# Altium integrated library TI Power Management Linear Regulator Single Channel LDO (400-7500mA).IntLib: 1408 symbols (part 3 of 60)
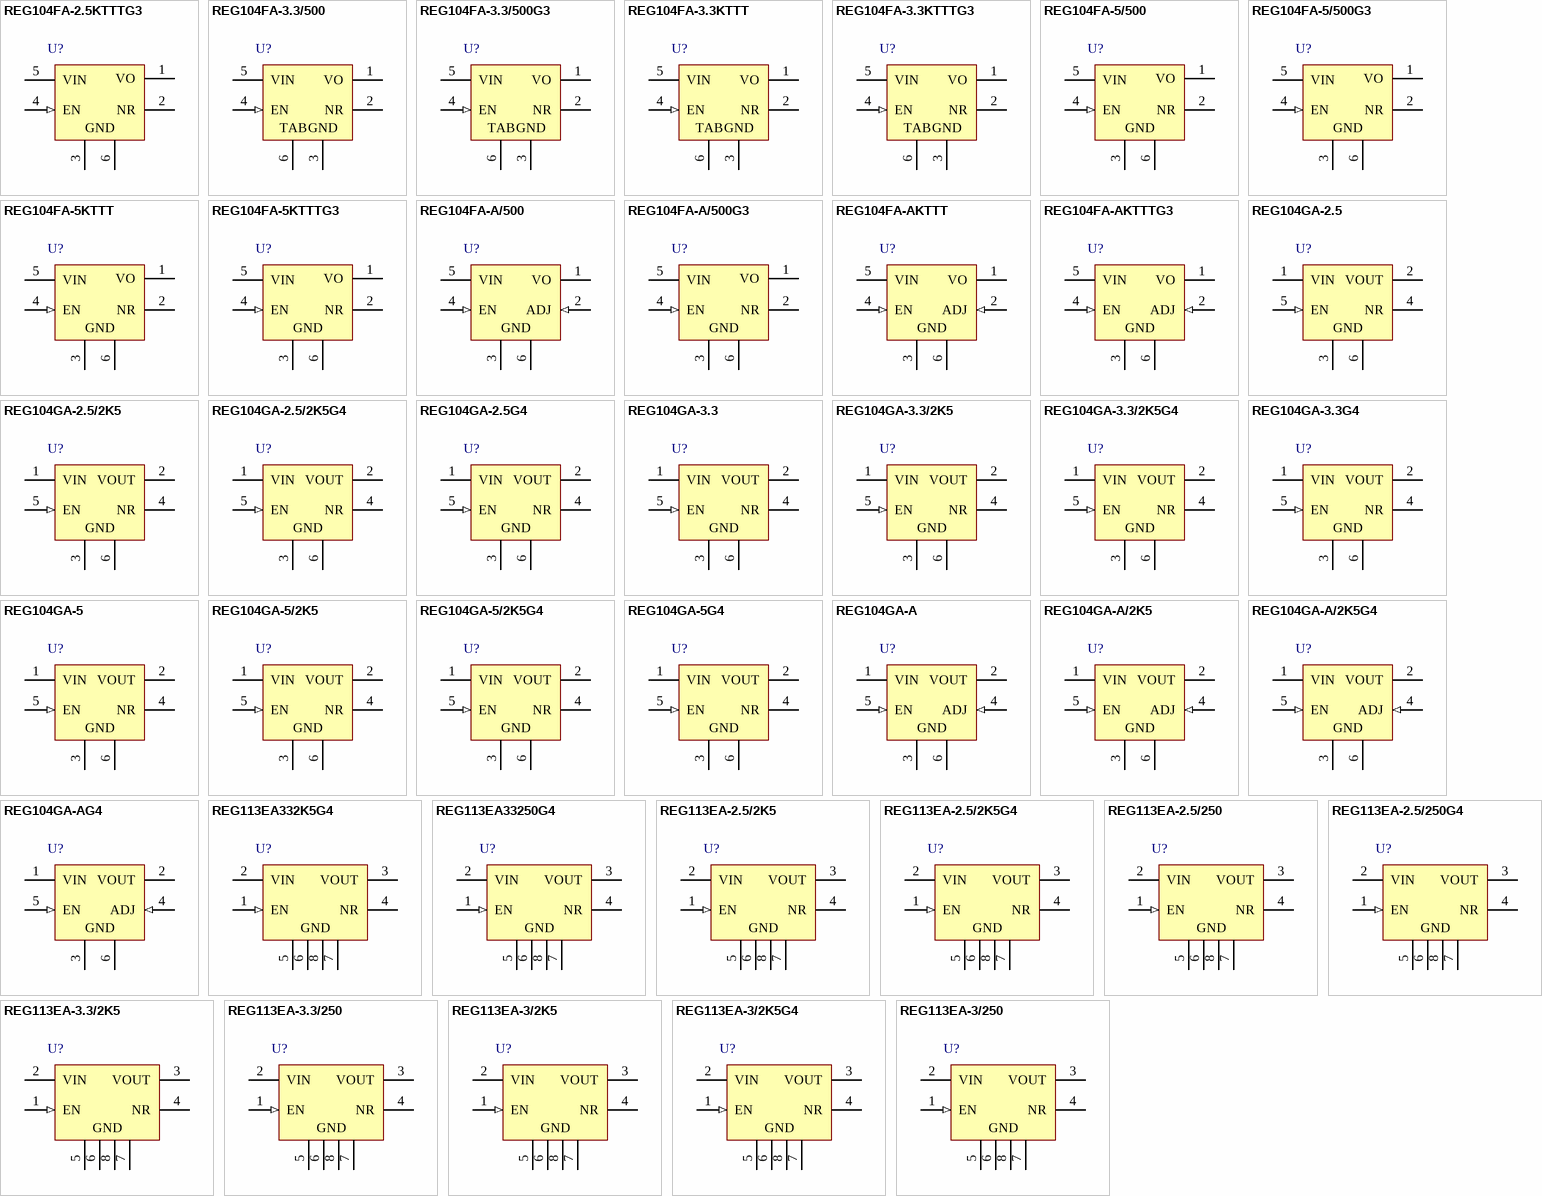
[diagram p52: symbols REG104FA-2.5KTTTG3 to REG113EA-3/250]

## REG104GA-5/2K5
designator U?
Single Output Fast Transient Response LDO, 1 A, Fixed 5 V Output, 2.1 to 15 V Input, 6-pin SOT-223 (DCQ), -40 to 85 degC, Green (RoHS & no Sb/Br); Manufacturer: Texas Instruments; PartNumber: REG104GA-5/2K5; Accuracy(%): 2; Fixed Output Options(V): 5; Iout(Max)(A): 1; Iq(Typ)(mA): 0.6; SubFamily: Single Channel LDO; Vdo(Typ)(mV): 320; Vin(Max)(V): 15; Vin(Min)(V): 2.1; DatasheetVersion: SBVS025G; PackageVersion: 4202109/D; PackageReference: DCQ6; PackageDescription: 6-Pin Plastic Small Outline, Body 3.5 x 6.5 mm, Pitch 1.27 mm; Supplier 1: Digi-Key; Supplier Part Number 1: REG104GA-5TR-ND; Supplier 2: Digi-Key; Supplier Part Number 2: REG104GA-5CT-ND; Supplier 3: Digi-Key; Supplier Part Number 3: REG104GA-5DKR-ND; Supplier 4: Newark; Supplier Part Number 4: 75C7550; Supplier 5: Mouser; Supplier Part Number 5: 595-REG104GA-5/2K5; Eco-Plan: Green (RoHS & no Sb/Br); Vout Adj(Max)(V): 5; Vout Adj(Min)(V): 5; Mounting Technology: Surface Mount; ComponentLink1Description: Manufacturer URL; ComponentLink1URL: http://www.ti.com/; ComponentLink2Description: Datasheet; ComponentLink2URL: http://www.ti.com/general/docs/lit/getliterature.tsp?genericPartNumber=REG104-5&fileType=pdf; ComponentLink3Description: Package Specification; ComponentLink3URL: http://www.ti.com/litv/pdf/mpds098c
footprint TI-DCQ6_N (SOT223, 6-Leads, Body 6.5x3.5mm, Pitch 1.27mm, IPC Medium Density)
footprint TI-DCQ6_L (SOT223, 6-Leads, Body 6.5x3.5mm, Pitch 1.27mm, IPC High Density)
footprint TI-DCQ6_M (SOT223, 6-Leads, Body 6.5x3.5mm, Pitch 1.27mm, IPC Low Density)
pins: 1 VIN (power), 2 VOUT (power), 3 GND (power), 4 NR, 5 EN (in), 6 GND (power)

## REG104GA-5/2K5G4
designator U?
Single Output Fast Transient Response LDO, 1 A, Fixed 5 V Output, 2.1 to 15 V Input, 6-pin SOT-223 (DCQ), -40 to 85 degC; Manufacturer: Texas Instruments; PartNumber: REG104GA-5/2K5G4; Accuracy(%): 2; Fixed Output Options(V): 5; Iout(Max)(A): 1; Iq(Typ)(mA): 0.6; SubFamily: Single Channel LDO; Vdo(Typ)(mV): 320; Vin(Max)(V): 15; Vin(Min)(V): 2.1; DatasheetVersion: SBVS025G; PackageVersion: 4202109/D; PackageReference: DCQ6; PackageDescription: 6-Pin Plastic Small Outline, Body 3.5 x 6.5 mm, Pitch 1.27 mm; Supplier 1: Digi-Key; Supplier Part Number 1: REG104GA-5/2K5G4-ND; Supplier 2: Mouser; Supplier Part Number 2: 595-REG104GA-5/2K5G4; Vout Adj(Max)(V): 5; Vout Adj(Min)(V): 5; Mounting Technology: Surface Mount; ComponentLink1Description: Manufacturer URL; ComponentLink1URL: http://www.ti.com/; ComponentLink2Description: Datasheet; ComponentLink2URL: http://www.ti.com/general/docs/lit/getliterature.tsp?genericPartNumber=REG104-5&fileType=pdf; ComponentLink3Description: Package Specification; ComponentLink3URL: http://www.ti.com/litv/pdf/mpds098c
footprint TI-DCQ6_N (SOT223, 6-Leads, Body 6.5x3.5mm, Pitch 1.27mm, IPC Medium Density)
footprint TI-DCQ6_L (SOT223, 6-Leads, Body 6.5x3.5mm, Pitch 1.27mm, IPC High Density)
footprint TI-DCQ6_M (SOT223, 6-Leads, Body 6.5x3.5mm, Pitch 1.27mm, IPC Low Density)
pins: 1 VIN (power), 2 VOUT (power), 3 GND (power), 4 NR, 5 EN (in), 6 GND (power)

## REG104GA-5G4
designator U?
Single Output Fast Transient Response LDO, 1 A, Fixed 5 V Output, 2.1 to 15 V Input, 6-pin SOT-223 (DCQ), -40 to 85 degC; Manufacturer: Texas Instruments; PartNumber: REG104GA-5G4; Accuracy(%): 2; Fixed Output Options(V): 5; Iout(Max)(A): 1; Iq(Typ)(mA): 0.6; SubFamily: Single Channel LDO; Vdo(Typ)(mV): 320; Vin(Max)(V): 15; Vin(Min)(V): 2.1; DatasheetVersion: SBVS025G; PackageVersion: 4202109/D; PackageReference: DCQ6; PackageDescription: 6-Pin Plastic Small Outline, Body 3.5 x 6.5 mm, Pitch 1.27 mm; Supplier 1: Digi-Key; Supplier Part Number 1: REG104GA-5G4-ND; Supplier 2: Farnell; Supplier Part Number 2: 1207261; Supplier 3: Newark; Supplier Part Number 3: 24M6812; Supplier 4: Mouser; Supplier Part Number 4: 595-REG104GA-5G4; Vout Adj(Max)(V): 5; Vout Adj(Min)(V): 5; Mounting Technology: Surface Mount; ComponentLink1Description: Manufacturer URL; ComponentLink1URL: http://www.ti.com/; ComponentLink2Description: Datasheet; ComponentLink2URL: http://www.ti.com/general/docs/lit/getliterature.tsp?genericPartNumber=REG104-5&fileType=pdf; ComponentLink3Description: Package Specification; ComponentLink3URL: http://www.ti.com/litv/pdf/mpds098c
footprint TI-DCQ6_N (SOT223, 6-Leads, Body 6.5x3.5mm, Pitch 1.27mm, IPC Medium Density)
footprint TI-DCQ6_L (SOT223, 6-Leads, Body 6.5x3.5mm, Pitch 1.27mm, IPC High Density)
footprint TI-DCQ6_M (SOT223, 6-Leads, Body 6.5x3.5mm, Pitch 1.27mm, IPC Low Density)
pins: 1 VIN (power), 2 VOUT (power), 3 GND (power), 4 NR, 5 EN (in), 6 GND (power)

## REG104GA-A
designator U?
Single Output Fast Transient Response LDO, 1 A, Adjustable 1.295 to 5.5 V Output, 2.1 to 15 V Input, 6-pin SOT-223 (DCQ), -40 to 85 degC, Green (RoHS & no Sb/Br); Manufacturer: Texas Instruments; PartNumber: REG104GA-A; Accuracy(%): 2; Iout(Max)(A): 1; Iq(Typ)(mA): 0.6; SubFamily: Single Channel LDO; Vdo(Typ)(mV): 230; Vin(Max)(V): 15; Vin(Min)(V): 2.1; Vout Adj(Max)(V): 5.5; Vout Adj(Min)(V): 1.3; DatasheetVersion: SBVS025G; PackageVersion: 4202109/D; PackageReference: DCQ6; PackageDescription: 6-Pin Plastic Small Outline, Body 3.5 x 6.5 mm, Pitch 1.27 mm; Supplier 1: Digi-Key; Supplier Part Number 1: REG104GA-A-ND; Supplier 2: Newark; Supplier Part Number 2: 74C0365; Supplier 3: Mouser; Supplier Part Number 3: 595-REG104GA-A; Eco-Plan: Green (RoHS & no Sb/Br); Mounting Technology: Surface Mount; ComponentLink1Description: Manufacturer URL; ComponentLink1URL: http://www.ti.com/; ComponentLink2Description: Datasheet; ComponentLink2URL: http://www.ti.com/general/docs/lit/getliterature.tsp?genericPartNumber=REG104-A&fileType=pdf; ComponentLink3Description: Package Specification; ComponentLink3URL: http://www.ti.com/litv/pdf/mpds098c
footprint TI-DCQ6_N (SOT223, 6-Leads, Body 6.5x3.5mm, Pitch 1.27mm, IPC Medium Density)
footprint TI-DCQ6_L (SOT223, 6-Leads, Body 6.5x3.5mm, Pitch 1.27mm, IPC High Density)
footprint TI-DCQ6_M (SOT223, 6-Leads, Body 6.5x3.5mm, Pitch 1.27mm, IPC Low Density)
pins: 1 VIN (power), 2 VOUT (power), 3 GND (power), 4 ADJ (in), 5 EN (in), 6 GND (power)

## REG104GA-A/2K5
designator U?
Single Output Fast Transient Response LDO, 1 A, Adjustable 1.295 to 5.5 V Output, 2.1 to 15 V Input, 6-pin SOT-223 (DCQ), -40 to 85 degC, Green (RoHS & no Sb/Br); Manufacturer: Texas Instruments; PartNumber: REG104GA-A/2K5; Accuracy(%): 2; Iout(Max)(A): 1; Iq(Typ)(mA): 0.6; SubFamily: Single Channel LDO; Vdo(Typ)(mV): 230; Vin(Max)(V): 15; Vin(Min)(V): 2.1; Vout Adj(Max)(V): 5.5; Vout Adj(Min)(V): 1.3; DatasheetVersion: SBVS025G; PackageVersion: 4202109/D; PackageReference: DCQ6; PackageDescription: 6-Pin Plastic Small Outline, Body 3.5 x 6.5 mm, Pitch 1.27 mm; Supplier 1: Digi-Key; Supplier Part Number 1: REG104GA-A/2K5-ND; Supplier 2: Newark; Supplier Part Number 2: 75C7540; Supplier 3: Mouser; Supplier Part Number 3: 595-REG104GA-A/2K5; Eco-Plan: Green (RoHS & no Sb/Br); Mounting Technology: Surface Mount; ComponentLink1Description: Manufacturer URL; ComponentLink1URL: http://www.ti.com/; ComponentLink2Description: Datasheet; ComponentLink2URL: http://www.ti.com/general/docs/lit/getliterature.tsp?genericPartNumber=REG104-A&fileType=pdf; ComponentLink3Description: Package Specification; ComponentLink3URL: http://www.ti.com/litv/pdf/mpds098c
footprint TI-DCQ6_N (SOT223, 6-Leads, Body 6.5x3.5mm, Pitch 1.27mm, IPC Medium Density)
footprint TI-DCQ6_L (SOT223, 6-Leads, Body 6.5x3.5mm, Pitch 1.27mm, IPC High Density)
footprint TI-DCQ6_M (SOT223, 6-Leads, Body 6.5x3.5mm, Pitch 1.27mm, IPC Low Density)
pins: 1 VIN (power), 2 VOUT (power), 3 GND (power), 4 ADJ (in), 5 EN (in), 6 GND (power)

## REG104GA-A/2K5G4
designator U?
Single Output Fast Transient Response LDO, 1 A, Adjustable 1.295 to 5.5 V Output, 2.1 to 15 V Input, 6-pin SOT-223 (DCQ), -40 to 85 degC, Green (RoHS & no Sb/Br); Manufacturer: Texas Instruments; PartNumber: REG104GA-A/2K5G4; Accuracy(%): 2; Iout(Max)(A): 1; Iq(Typ)(mA): 0.6; SubFamily: Single Channel LDO; Vdo(Typ)(mV): 230; Vin(Max)(V): 15; Vin(Min)(V): 2.1; Vout Adj(Max)(V): 5.5; Vout Adj(Min)(V): 1.3; DatasheetVersion: SBVS025G; PackageVersion: 4202109/D; PackageReference: DCQ6; PackageDescription: 6-Pin Plastic Small Outline, Body 3.5 x 6.5 mm, Pitch 1.27 mm; Supplier 1: Digi-Key; Supplier Part Number 1: REG104GA-A/2K5G4-ND; Supplier 2: Newark; Supplier Part Number 2: 71J7570; Supplier 3: Mouser; Supplier Part Number 3: 595-REG104GA-A/2K5G4; Eco-Plan: Green (RoHS & no Sb/Br); Mounting Technology: Surface Mount; ComponentLink1Description: Manufacturer URL; ComponentLink1URL: http://www.ti.com/; ComponentLink2Description: Datasheet; ComponentLink2URL: http://www.ti.com/general/docs/lit/getliterature.tsp?genericPartNumber=REG104-A&fileType=pdf; ComponentLink3Description: Package Specification; ComponentLink3URL: http://www.ti.com/litv/pdf/mpds098c
footprint TI-DCQ6_N (SOT223, 6-Leads, Body 6.5x3.5mm, Pitch 1.27mm, IPC Medium Density)
footprint TI-DCQ6_L (SOT223, 6-Leads, Body 6.5x3.5mm, Pitch 1.27mm, IPC High Density)
footprint TI-DCQ6_M (SOT223, 6-Leads, Body 6.5x3.5mm, Pitch 1.27mm, IPC Low Density)
pins: 1 VIN (power), 2 VOUT (power), 3 GND (power), 4 ADJ (in), 5 EN (in), 6 GND (power)

## REG104GA-AG4
designator U?
Single Output Fast Transient Response LDO, 1 A, Adjustable 1.295 to 5.5 V Output, 2.1 to 15 V Input, 6-pin SOT-223 (DCQ), -40 to 85 degC; Manufacturer: Texas Instruments; PartNumber: REG104GA-AG4; Accuracy(%): 2; Iout(Max)(A): 1; Iq(Typ)(mA): 0.6; SubFamily: Single Channel LDO; Vdo(Typ)(mV): 230; Vin(Max)(V): 15; Vin(Min)(V): 2.1; Vout Adj(Max)(V): 5.5; Vout Adj(Min)(V): 1.3; DatasheetVersion: SBVS025G; PackageVersion: 4202109/D; PackageReference: DCQ6; PackageDescription: 6-Pin Plastic Small Outline, Body 3.5 x 6.5 mm, Pitch 1.27 mm; Supplier 1: Digi-Key; Supplier Part Number 1: REG104GA-AG4-ND; Supplier 2: Farnell; Supplier Part Number 2: 1207262; Supplier 3: Newark; Supplier Part Number 3: 24M6810; Supplier 4: Newark; Supplier Part Number 4: 80K2819; Supplier 5: Mouser; Supplier Part Number 5: 595-REG104GA-AG4; Mounting Technology: Surface Mount; ComponentLink1Description: Manufacturer URL; ComponentLink1URL: http://www.ti.com/; ComponentLink2Description: Datasheet; ComponentLink2URL: http://www.ti.com/general/docs/lit/getliterature.tsp?genericPartNumber=REG104-A&fileType=pdf; ComponentLink3Description: Package Specification; ComponentLink3URL: http://www.ti.com/litv/pdf/mpds098c
footprint TI-DCQ6_N (SOT223, 6-Leads, Body 6.5x3.5mm, Pitch 1.27mm, IPC Medium Density)
footprint TI-DCQ6_L (SOT223, 6-Leads, Body 6.5x3.5mm, Pitch 1.27mm, IPC High Density)
footprint TI-DCQ6_M (SOT223, 6-Leads, Body 6.5x3.5mm, Pitch 1.27mm, IPC Low Density)
pins: 1 VIN (power), 2 VOUT (power), 3 GND (power), 4 ADJ (in), 5 EN (in), 6 GND (power)

## REG113EA332K5G4
designator U?
Single Output Fast Transient Response LDO, 400 mA, Fixed 3.3 V Output, 1.8 to 10 V Input, 8-pin MSOP (DGK), -40 to 85 degC, Green (RoHS & no Sb/Br); Manufacturer: Texas Instruments; PartNumber: REG113EA332K5G4; Accuracy(%): 1.5; Fixed Output Options(V): 3.3; Iout(Max)(A): 0.4; SubFamily: Single Channel LDO; Vdo(Typ)(mV): 250; Vin(Max)(V): 10; Vin(Min)(V): 1.8; DatasheetVersion: SBVS031D; PackageVersion: 4073329/E; PackageReference: DGK8; PackageDescription: 8-Pin Thin Small Outline Package 3 x 3 mm Body ,0.65 mm Pitch; Supplier 1: Digi-Key; Supplier Part Number 1: REG113EA332K5G4-ND; Supplier 2: Mouser; Supplier Part Number 2: 595-REG113EA332K5G4; Eco-Plan: Green (RoHS & no Sb/Br); Iq(Typ)(mA): 0.4; Vout Adj(Max)(V): 3.3; Vout Adj(Min)(V): 3.3; Mounting Technology: Surface Mount; Code_JEDEC: MO-187; ComponentLink1Description: Manufacturer URL; ComponentLink1URL: http://www.ti.com/; ComponentLink2Description: Datasheet; ComponentLink2URL: http://www.ti.com/general/docs/lit/getliterature.tsp?genericPartNumber=REG113-33&fileType=pdf; ComponentLink3Description: Package Specification; ComponentLink3URL: http://www.ti.com/litv/pdf/mpds028d
footprint TI-DGK8_N (SOP, 8-Leads, Body 3x3mm, Pitch 0.65mm, IPC Medium Density)
footprint TI-DGK8_L (SOP, 8-Leads, Body 3x3mm, Pitch 0.65mm, IPC High Density)
footprint TI-DGK8_M (SOP, 8-Leads, Body 3x3mm, Pitch 0.65mm, IPC Low Density)
pins: 1 EN (in), 2 VIN (power), 3 VOUT (power), 4 NR, 5 GND (power), 6 GND (power), 7 GND (power), 8 GND (power)

## REG113EA33250G4
designator U?
Single Output Fast Transient Response LDO, 400 mA, Fixed 3.3 V Output, 1.8 to 10 V Input, 8-pin MSOP (DGK), -40 to 85 degC, Green (RoHS & no Sb/Br); Manufacturer: Texas Instruments; PartNumber: REG113EA33250G4; Accuracy(%): 1.5; Fixed Output Options(V): 3.3; Iout(Max)(A): 0.4; SubFamily: Single Channel LDO; Vdo(Typ)(mV): 250; Vin(Max)(V): 10; Vin(Min)(V): 1.8; DatasheetVersion: SBVS031D; PackageVersion: 4073329/E; PackageReference: DGK8; PackageDescription: 8-Pin Thin Small Outline Package 3 x 3 mm Body ,0.65 mm Pitch; Supplier 1: Digi-Key; Supplier Part Number 1: REG113EA33250G4-ND; Supplier 2: Mouser; Supplier Part Number 2: 595-REG113EA33250G4; Eco-Plan: Green (RoHS & no Sb/Br); Iq(Typ)(mA): 0.4; Vout Adj(Max)(V): 3.3; Vout Adj(Min)(V): 3.3; Mounting Technology: Surface Mount; Code_JEDEC: MO-187; ComponentLink1Description: Manufacturer URL; ComponentLink1URL: http://www.ti.com/; ComponentLink2Description: Datasheet; ComponentLink2URL: http://www.ti.com/general/docs/lit/getliterature.tsp?genericPartNumber=REG113-33&fileType=pdf; ComponentLink3Description: Package Specification; ComponentLink3URL: http://www.ti.com/litv/pdf/mpds028d
footprint TI-DGK8_N (SOP, 8-Leads, Body 3x3mm, Pitch 0.65mm, IPC Medium Density)
footprint TI-DGK8_L (SOP, 8-Leads, Body 3x3mm, Pitch 0.65mm, IPC High Density)
footprint TI-DGK8_M (SOP, 8-Leads, Body 3x3mm, Pitch 0.65mm, IPC Low Density)
pins: 1 EN (in), 2 VIN (power), 3 VOUT (power), 4 NR, 5 GND (power), 6 GND (power), 7 GND (power), 8 GND (power)

## REG113EA-2.5/2K5
designator U?
Single Output Fast Transient Response LDO, 400 mA, Fixed 2.5 V Output, 1.8 to 10 V Input, 8-pin MSOP (DGK), -40 to 85 degC, Green (RoHS & no Sb/Br); Manufacturer: Texas Instruments; PartNumber: REG113EA-2.5/2K5; Accuracy(%): 1.5; Fixed Output Options(V): 2.5; Iout(Max)(A): 0.4; SubFamily: Single Channel LDO; Vdo(Typ)(mV): 250; Vin(Max)(V): 10; Vin(Min)(V): 1.8; DatasheetVersion: SBVS031D; PackageVersion: 4073329/E; PackageReference: DGK8; PackageDescription: 8-Pin Thin Small Outline Package 3 x 3 mm Body ,0.65 mm Pitch; Supplier 1: Digi-Key; Supplier Part Number 1: REG113EA2.52K5TR-ND; Supplier 2: Digi-Key; Supplier Part Number 2: REG113EA2.52K5CT-ND; Supplier 3: Digi-Key; Supplier Part Number 3: REG113EA2.52K5DKR-ND; Supplier 4: Mouser; Supplier Part Number 4: 595-REG113EA-2.5/2K5; Eco-Plan: Green (RoHS & no Sb/Br); Iq(Typ)(mA): 0.4; Vout Adj(Max)(V): 2.5; Vout Adj(Min)(V): 2.5; Mounting Technology: Surface Mount; Code_JEDEC: MO-187; ComponentLink1Description: Manufacturer URL; ComponentLink1URL: http://www.ti.com/; ComponentLink2Description: Datasheet; ComponentLink2URL: http://www.ti.com/general/docs/lit/getliterature.tsp?genericPartNumber=REG113-25&fileType=pdf; ComponentLink3Description: Package Specification; ComponentLink3URL: http://www.ti.com/litv/pdf/mpds028d
footprint TI-DGK8_N (SOP, 8-Leads, Body 3x3mm, Pitch 0.65mm, IPC Medium Density)
footprint TI-DGK8_L (SOP, 8-Leads, Body 3x3mm, Pitch 0.65mm, IPC High Density)
footprint TI-DGK8_M (SOP, 8-Leads, Body 3x3mm, Pitch 0.65mm, IPC Low Density)
pins: 1 EN (in), 2 VIN (power), 3 VOUT (power), 4 NR, 5 GND (power), 6 GND (power), 7 GND (power), 8 GND (power)

## REG113EA-2.5/2K5G4
designator U?
Single Output Fast Transient Response LDO, 400 mA, Fixed 2.5 V Output, 1.8 to 10 V Input, 8-pin MSOP (DGK), -40 to 85 degC, Green (RoHS & no Sb/Br); Manufacturer: Texas Instruments; PartNumber: REG113EA-2.5/2K5G4; Accuracy(%): 1.5; Fixed Output Options(V): 2.5; Iout(Max)(A): 0.4; SubFamily: Single Channel LDO; Vdo(Typ)(mV): 250; Vin(Max)(V): 10; Vin(Min)(V): 1.8; DatasheetVersion: SBVS031D; PackageVersion: 4073329/E; PackageReference: DGK8; PackageDescription: 8-Pin Thin Small Outline Package 3 x 3 mm Body ,0.65 mm Pitch; Supplier 1: Digi-Key; Supplier Part Number 1: REG113EA-2.5/2K5G4-ND; Supplier 2: Mouser; Supplier Part Number 2: 595-REG113EA252K5G4; Eco-Plan: Green (RoHS & no Sb/Br); Iq(Typ)(mA): 0.4; Vout Adj(Max)(V): 2.5; Vout Adj(Min)(V): 2.5; Mounting Technology: Surface Mount; Code_JEDEC: MO-187; ComponentLink1Description: Manufacturer URL; ComponentLink1URL: http://www.ti.com/; ComponentLink2Description: Datasheet; ComponentLink2URL: http://www.ti.com/general/docs/lit/getliterature.tsp?genericPartNumber=REG113-25&fileType=pdf; ComponentLink3Description: Package Specification; ComponentLink3URL: http://www.ti.com/litv/pdf/mpds028d
footprint TI-DGK8_N (SOP, 8-Leads, Body 3x3mm, Pitch 0.65mm, IPC Medium Density)
footprint TI-DGK8_L (SOP, 8-Leads, Body 3x3mm, Pitch 0.65mm, IPC High Density)
footprint TI-DGK8_M (SOP, 8-Leads, Body 3x3mm, Pitch 0.65mm, IPC Low Density)
pins: 1 EN (in), 2 VIN (power), 3 VOUT (power), 4 NR, 5 GND (power), 6 GND (power), 7 GND (power), 8 GND (power)

## REG113EA-2.5/250
designator U?
Single Output Fast Transient Response LDO, 400 mA, Fixed 2.5 V Output, 1.8 to 10 V Input, 8-pin MSOP (DGK), -40 to 85 degC, Green (RoHS & no Sb/Br); Manufacturer: Texas Instruments; PartNumber: REG113EA-2.5/250; Accuracy(%): 1.5; Fixed Output Options(V): 2.5; Iout(Max)(A): 0.4; SubFamily: Single Channel LDO; Vdo(Typ)(mV): 250; Vin(Max)(V): 10; Vin(Min)(V): 1.8; DatasheetVersion: SBVS031D; PackageVersion: 4073329/E; PackageReference: DGK8; PackageDescription: 8-Pin Thin Small Outline Package 3 x 3 mm Body ,0.65 mm Pitch; Supplier 1: Digi-Key; Supplier Part Number 1: 296-29075-2-ND; Supplier 2: Digi-Key; Supplier Part Number 2: 296-29075-1-ND; Supplier 3: Digi-Key; Supplier Part Number 3: 296-29075-6-ND; Supplier 4: Mouser; Supplier Part Number 4: 595-REG113EA-2.5/250; Eco-Plan: Green (RoHS & no Sb/Br); Iq(Typ)(mA): 0.4; Vout Adj(Max)(V): 2.5; Vout Adj(Min)(V): 2.5; Mounting Technology: Surface Mount; Code_JEDEC: MO-187; ComponentLink1Description: Manufacturer URL; ComponentLink1URL: http://www.ti.com/; ComponentLink2Description: Datasheet; ComponentLink2URL: http://www.ti.com/general/docs/lit/getliterature.tsp?genericPartNumber=REG113-25&fileType=pdf; ComponentLink3Description: Package Specification; ComponentLink3URL: http://www.ti.com/litv/pdf/mpds028d
footprint TI-DGK8_N (SOP, 8-Leads, Body 3x3mm, Pitch 0.65mm, IPC Medium Density)
footprint TI-DGK8_L (SOP, 8-Leads, Body 3x3mm, Pitch 0.65mm, IPC High Density)
footprint TI-DGK8_M (SOP, 8-Leads, Body 3x3mm, Pitch 0.65mm, IPC Low Density)
pins: 1 EN (in), 2 VIN (power), 3 VOUT (power), 4 NR, 5 GND (power), 6 GND (power), 7 GND (power), 8 GND (power)

## REG113EA-2.5/250G4
designator U?
Single Output Fast Transient Response LDO, 400 mA, Fixed 2.5 V Output, 1.8 to 10 V Input, 8-pin MSOP (DGK), -40 to 85 degC, Green (RoHS & no Sb/Br); Manufacturer: Texas Instruments; PartNumber: REG113EA-2.5/250G4; Accuracy(%): 1.5; Fixed Output Options(V): 2.5; Iout(Max)(A): 0.4; SubFamily: Single Channel LDO; Vdo(Typ)(mV): 250; Vin(Max)(V): 10; Vin(Min)(V): 1.8; DatasheetVersion: SBVS031D; PackageVersion: 4073329/E; PackageReference: DGK8; PackageDescription: 8-Pin Thin Small Outline Package 3 x 3 mm Body ,0.65 mm Pitch; Supplier 1: Digi-Key; Supplier Part Number 1: REG113EA-2.5/250G4-ND; Supplier 2: Mouser; Supplier Part Number 2: 595-REG113EA25250G4; Eco-Plan: Green (RoHS & no Sb/Br); Iq(Typ)(mA): 0.4; Vout Adj(Max)(V): 2.5; Vout Adj(Min)(V): 2.5; Mounting Technology: Surface Mount; Code_JEDEC: MO-187; ComponentLink1Description: Manufacturer URL; ComponentLink1URL: http://www.ti.com/; ComponentLink2Description: Datasheet; ComponentLink2URL: http://www.ti.com/general/docs/lit/getliterature.tsp?genericPartNumber=REG113-25&fileType=pdf; ComponentLink3Description: Package Specification; ComponentLink3URL: http://www.ti.com/litv/pdf/mpds028d
footprint TI-DGK8_N (SOP, 8-Leads, Body 3x3mm, Pitch 0.65mm, IPC Medium Density)
footprint TI-DGK8_L (SOP, 8-Leads, Body 3x3mm, Pitch 0.65mm, IPC High Density)
footprint TI-DGK8_M (SOP, 8-Leads, Body 3x3mm, Pitch 0.65mm, IPC Low Density)
pins: 1 EN (in), 2 VIN (power), 3 VOUT (power), 4 NR, 5 GND (power), 6 GND (power), 7 GND (power), 8 GND (power)

## REG113EA-3.3/2K5
designator U?
Single Output Fast Transient Response LDO, 400 mA, Fixed 3.3 V Output, 1.8 to 10 V Input, 8-pin MSOP (DGK), -40 to 85 degC, Green (RoHS & no Sb/Br); Manufacturer: Texas Instruments; PartNumber: REG113EA-3.3/2K5; Accuracy(%): 1.5; Fixed Output Options(V): 3.3; Iout(Max)(A): 0.4; SubFamily: Single Channel LDO; Vdo(Typ)(mV): 250; Vin(Max)(V): 10; Vin(Min)(V): 1.8; DatasheetVersion: SBVS031D; PackageVersion: 4073329/E; PackageReference: DGK8; PackageDescription: 8-Pin Thin Small Outline Package 3 x 3 mm Body ,0.65 mm Pitch; Supplier 1: Digi-Key; Supplier Part Number 1: REG113EA-3.3/2K5-ND; Supplier 2: Newark; Supplier Part Number 2: 75C7579; Supplier 3: Mouser; Supplier Part Number 3: 595-REG113EA-3.3/2K5; Eco-Plan: Green (RoHS & no Sb/Br); Iq(Typ)(mA): 0.4; Vout Adj(Max)(V): 3.3; Vout Adj(Min)(V): 3.3; Mounting Technology: Surface Mount; Code_JEDEC: MO-187; ComponentLink1Description: Manufacturer URL; ComponentLink1URL: http://www.ti.com/; ComponentLink2Description: Datasheet; ComponentLink2URL: http://www.ti.com/general/docs/lit/getliterature.tsp?genericPartNumber=REG113-33&fileType=pdf; ComponentLink3Description: Package Specification; ComponentLink3URL: http://www.ti.com/litv/pdf/mpds028d
footprint TI-DGK8_N (SOP, 8-Leads, Body 3x3mm, Pitch 0.65mm, IPC Medium Density)
footprint TI-DGK8_L (SOP, 8-Leads, Body 3x3mm, Pitch 0.65mm, IPC High Density)
footprint TI-DGK8_M (SOP, 8-Leads, Body 3x3mm, Pitch 0.65mm, IPC Low Density)
pins: 1 EN (in), 2 VIN (power), 3 VOUT (power), 4 NR, 5 GND (power), 6 GND (power), 7 GND (power), 8 GND (power)

## REG113EA-3.3/250
designator U?
Single Output Fast Transient Response LDO, 400 mA, Fixed 3.3 V Output, 1.8 to 10 V Input, 8-pin MSOP (DGK), -40 to 85 degC, Green (RoHS & no Sb/Br); Manufacturer: Texas Instruments; PartNumber: REG113EA-3.3/250; Accuracy(%): 1.5; Fixed Output Options(V): 3.3; Iout(Max)(A): 0.4; SubFamily: Single Channel LDO; Vdo(Typ)(mV): 250; Vin(Max)(V): 10; Vin(Min)(V): 1.8; DatasheetVersion: SBVS031D; PackageVersion: 4073329/E; PackageReference: DGK8; PackageDescription: 8-Pin Thin Small Outline Package 3 x 3 mm Body ,0.65 mm Pitch; Supplier 1: Digi-Key; Supplier Part Number 1: REG113EA3.3/250TR-ND; Supplier 2: Digi-Key; Supplier Part Number 2: REG113EA3.3/250CT-ND; Supplier 3: Digi-Key; Supplier Part Number 3: REG113EA3.3/250DKR-ND; Supplier 4: Newark; Supplier Part Number 4: 75C7580; Supplier 5: Mouser; Supplier Part Number 5: 595-REG113EA-3.3/250; Eco-Plan: Green (RoHS & no Sb/Br); Iq(Typ)(mA): 0.4; Vout Adj(Max)(V): 3.3; Vout Adj(Min)(V): 3.3; Mounting Technology: Surface Mount; Code_JEDEC: MO-187; ComponentLink1Description: Manufacturer URL; ComponentLink1URL: http://www.ti.com/; ComponentLink2Description: Datasheet; ComponentLink2URL: http://www.ti.com/general/docs/lit/getliterature.tsp?genericPartNumber=REG113-33&fileType=pdf; ComponentLink3Description: Package Specification; ComponentLink3URL: http://www.ti.com/litv/pdf/mpds028d
footprint TI-DGK8_N (SOP, 8-Leads, Body 3x3mm, Pitch 0.65mm, IPC Medium Density)
footprint TI-DGK8_L (SOP, 8-Leads, Body 3x3mm, Pitch 0.65mm, IPC High Density)
footprint TI-DGK8_M (SOP, 8-Leads, Body 3x3mm, Pitch 0.65mm, IPC Low Density)
pins: 1 EN (in), 2 VIN (power), 3 VOUT (power), 4 NR, 5 GND (power), 6 GND (power), 7 GND (power), 8 GND (power)

## REG113EA-3/2K5
designator U?
Single Output Fast Transient Response LDO, 400 mA, Fixed 3 V Output, 1.8 to 10 V Input, 8-pin MSOP (DGK), -40 to 85 degC, Green (RoHS & no Sb/Br); Manufacturer: Texas Instruments; PartNumber: REG113EA-3/2K5; Accuracy(%): 1.5; Fixed Output Options(V): 3; Iout(Max)(A): 0.4; SubFamily: Single Channel LDO; Vdo(Typ)(mV): 250; Vin(Max)(V): 10; Vin(Min)(V): 1.8; DatasheetVersion: SBVS031D; PackageVersion: 4073329/E; PackageReference: DGK8; PackageDescription: 8-Pin Thin Small Outline Package 3 x 3 mm Body ,0.65 mm Pitch; Supplier 1: Digi-Key; Supplier Part Number 1: REG113EA-3/2K5TR-ND; Supplier 2: Digi-Key; Supplier Part Number 2: REG113EA-3/2K5CT-ND; Supplier 3: Digi-Key; Supplier Part Number 3: REG113EA-3/2K5DKR-ND; Supplier 4: Mouser; Supplier Part Number 4: 595-REG113EA-3/2K5; Eco-Plan: Green (RoHS & no Sb/Br); Iq(Typ)(mA): 0.4; Vout Adj(Max)(V): 3; Vout Adj(Min)(V): 3; Mounting Technology: Surface Mount; Code_JEDEC: MO-187; ComponentLink1Description: Manufacturer URL; ComponentLink1URL: http://www.ti.com/; ComponentLink2Description: Datasheet; ComponentLink2URL: http://www.ti.com/general/docs/lit/getliterature.tsp?genericPartNumber=REG113-3&fileType=pdf; ComponentLink3Description: Package Specification; ComponentLink3URL: http://www.ti.com/litv/pdf/mpds028d
footprint TI-DGK8_N (SOP, 8-Leads, Body 3x3mm, Pitch 0.65mm, IPC Medium Density)
footprint TI-DGK8_L (SOP, 8-Leads, Body 3x3mm, Pitch 0.65mm, IPC High Density)
footprint TI-DGK8_M (SOP, 8-Leads, Body 3x3mm, Pitch 0.65mm, IPC Low Density)
pins: 1 EN (in), 2 VIN (power), 3 VOUT (power), 4 NR, 5 GND (power), 6 GND (power), 7 GND (power), 8 GND (power)

## REG113EA-3/2K5G4
designator U?
Single Output Fast Transient Response LDO, 400 mA, Fixed 3 V Output, 1.8 to 10 V Input, 8-pin MSOP (DGK), -40 to 85 degC, Green (RoHS & no Sb/Br); Manufacturer: Texas Instruments; PartNumber: REG113EA-3/2K5G4; Accuracy(%): 1.5; Fixed Output Options(V): 3; Iout(Max)(A): 0.4; SubFamily: Single Channel LDO; Vdo(Typ)(mV): 250; Vin(Max)(V): 10; Vin(Min)(V): 1.8; DatasheetVersion: SBVS031D; PackageVersion: 4073329/E; PackageReference: DGK8; PackageDescription: 8-Pin Thin Small Outline Package 3 x 3 mm Body ,0.65 mm Pitch; Supplier 1: Digi-Key; Supplier Part Number 1: REG113EA-3/2K5G4-ND; Supplier 2: Mouser; Supplier Part Number 2: 595-REG113EA-3/2K5G4; Eco-Plan: Green (RoHS & no Sb/Br); Iq(Typ)(mA): 0.4; Vout Adj(Max)(V): 3; Vout Adj(Min)(V): 3; Mounting Technology: Surface Mount; Code_JEDEC: MO-187; ComponentLink1Description: Manufacturer URL; ComponentLink1URL: http://www.ti.com/; ComponentLink2Description: Datasheet; ComponentLink2URL: http://www.ti.com/general/docs/lit/getliterature.tsp?genericPartNumber=REG113-3&fileType=pdf; ComponentLink3Description: Package Specification; ComponentLink3URL: http://www.ti.com/litv/pdf/mpds028d
footprint TI-DGK8_N (SOP, 8-Leads, Body 3x3mm, Pitch 0.65mm, IPC Medium Density)
footprint TI-DGK8_L (SOP, 8-Leads, Body 3x3mm, Pitch 0.65mm, IPC High Density)
footprint TI-DGK8_M (SOP, 8-Leads, Body 3x3mm, Pitch 0.65mm, IPC Low Density)
pins: 1 EN (in), 2 VIN (power), 3 VOUT (power), 4 NR, 5 GND (power), 6 GND (power), 7 GND (power), 8 GND (power)

## REG113EA-3/250
designator U?
Single Output Fast Transient Response LDO, 400 mA, Fixed 3 V Output, 1.8 to 10 V Input, 8-pin MSOP (DGK), -40 to 85 degC, Green (RoHS & no Sb/Br); Manufacturer: Texas Instruments; PartNumber: REG113EA-3/250; Accuracy(%): 1.5; Fixed Output Options(V): 3; Iout(Max)(A): 0.4; SubFamily: Single Channel LDO; Vdo(Typ)(mV): 250; Vin(Max)(V): 10; Vin(Min)(V): 1.8; DatasheetVersion: SBVS031D; PackageVersion: 4073329/E; PackageReference: DGK8; PackageDescription: 8-Pin Thin Small Outline Package 3 x 3 mm Body ,0.65 mm Pitch; Supplier 1: Digi-Key; Supplier Part Number 1: REG113EA-3/250-ND; Supplier 2: Newark; Supplier Part Number 2: 75C7582; Supplier 3: Mouser; Supplier Part Number 3: 595-REG113EA-3/250; Eco-Plan: Green (RoHS & no Sb/Br); Iq(Typ)(mA): 0.4; Vout Adj(Max)(V): 3; Vout Adj(Min)(V): 3; Mounting Technology: Surface Mount; Code_JEDEC: MO-187; ComponentLink1Description: Manufacturer URL; ComponentLink1URL: http://www.ti.com/; ComponentLink2Description: Datasheet; ComponentLink2URL: http://www.ti.com/general/docs/lit/getliterature.tsp?genericPartNumber=REG113-3&fileType=pdf; ComponentLink3Description: Package Specification; ComponentLink3URL: http://www.ti.com/litv/pdf/mpds028d
footprint TI-DGK8_N (SOP, 8-Leads, Body 3x3mm, Pitch 0.65mm, IPC Medium Density)
footprint TI-DGK8_L (SOP, 8-Leads, Body 3x3mm, Pitch 0.65mm, IPC High Density)
footprint TI-DGK8_M (SOP, 8-Leads, Body 3x3mm, Pitch 0.65mm, IPC Low Density)
pins: 1 EN (in), 2 VIN (power), 3 VOUT (power), 4 NR, 5 GND (power), 6 GND (power), 7 GND (power), 8 GND (power)

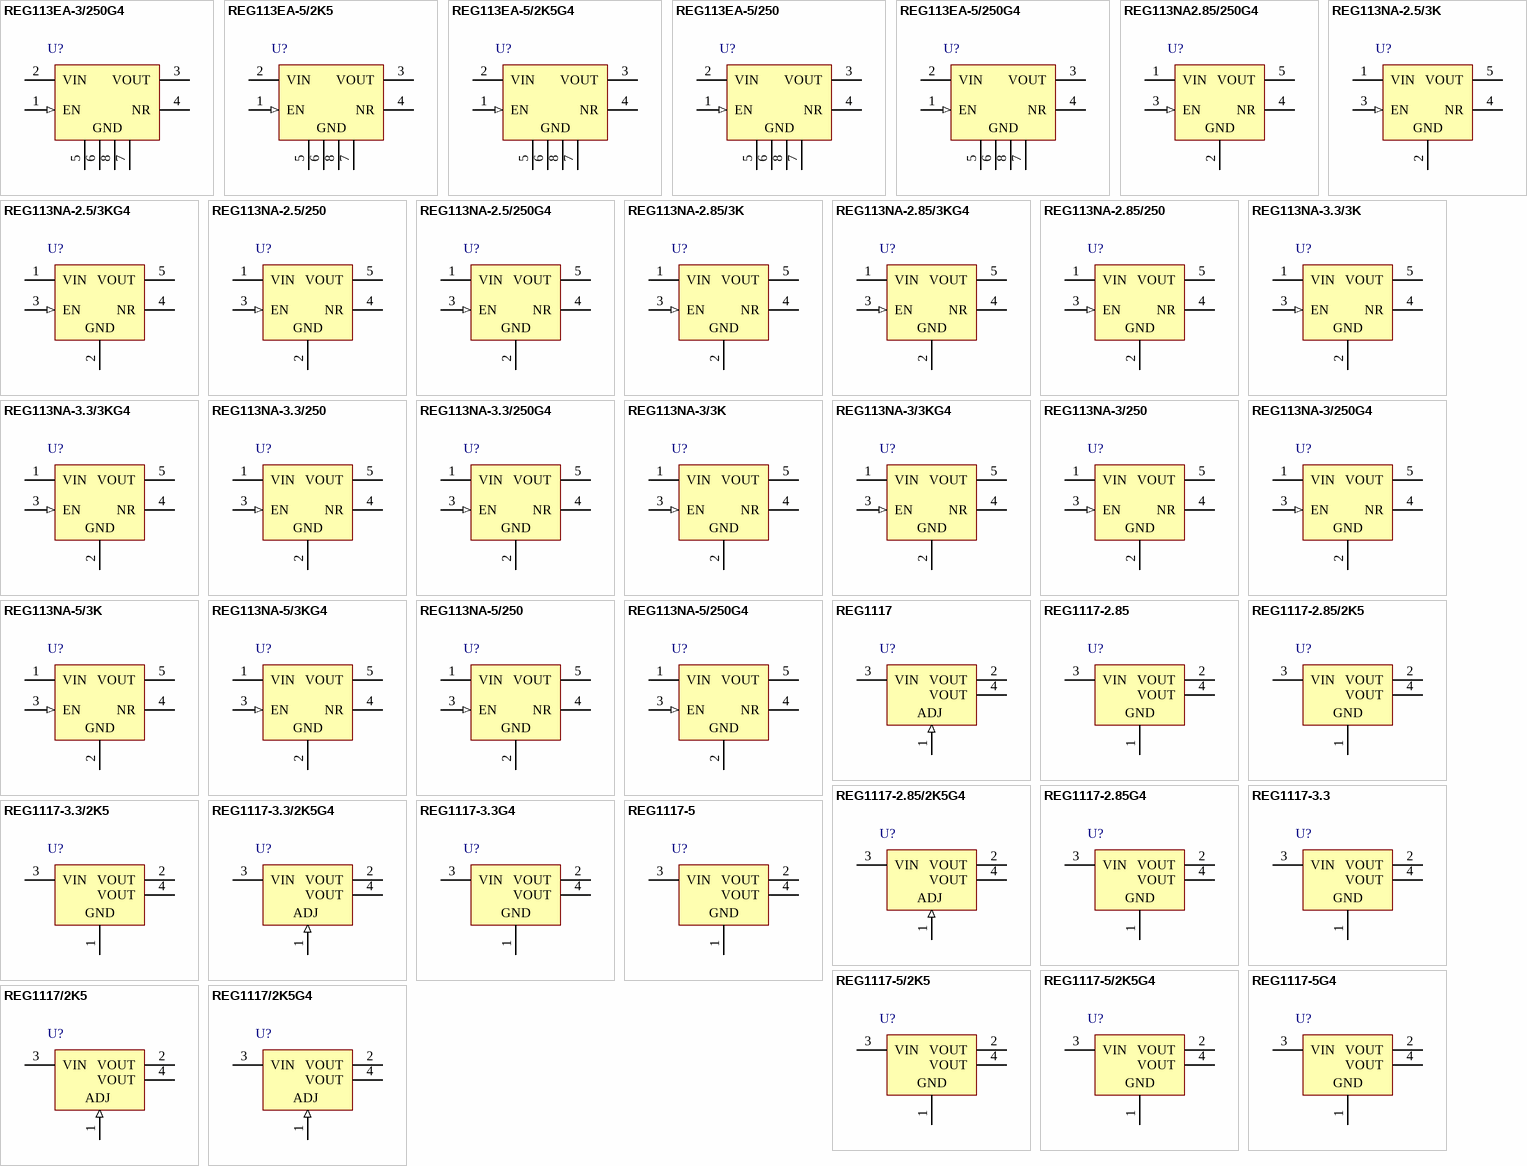
[diagram p2: symbols REG113EA-3/250G4 to REG1117/2K5G4]

## REG113EA-3/250G4
designator U?
Single Output Fast Transient Response LDO, 400 mA, Fixed 3 V Output, 1.8 to 10 V Input, 8-pin MSOP (DGK), -40 to 85 degC, Green (RoHS & no Sb/Br); Manufacturer: Texas Instruments; PartNumber: REG113EA-3/250G4; Accuracy(%): 1.5; Fixed Output Options(V): 3; Iout(Max)(A): 0.4; SubFamily: Single Channel LDO; Vdo(Typ)(mV): 250; Vin(Max)(V): 10; Vin(Min)(V): 1.8; DatasheetVersion: SBVS031D; PackageVersion: 4073329/E; PackageReference: DGK8; PackageDescription: 8-Pin Thin Small Outline Package 3 x 3 mm Body ,0.65 mm Pitch; Supplier 1: Digi-Key; Supplier Part Number 1: REG113EA-3/250G4-ND; Supplier 2: Newark; Supplier Part Number 2: 33M9736; Supplier 3: Mouser; Supplier Part Number 3: 595-REG113EA-3/250G4; Eco-Plan: Green (RoHS & no Sb/Br); Iq(Typ)(mA): 0.4; Vout Adj(Max)(V): 3; Vout Adj(Min)(V): 3; Mounting Technology: Surface Mount; Code_JEDEC: MO-187; ComponentLink1Description: Manufacturer URL; ComponentLink1URL: http://www.ti.com/; ComponentLink2Description: Datasheet; ComponentLink2URL: http://www.ti.com/general/docs/lit/getliterature.tsp?genericPartNumber=REG113-3&fileType=pdf; ComponentLink3Description: Package Specification; ComponentLink3URL: http://www.ti.com/litv/pdf/mpds028d
footprint TI-DGK8_N (SOP, 8-Leads, Body 3x3mm, Pitch 0.65mm, IPC Medium Density)
footprint TI-DGK8_L (SOP, 8-Leads, Body 3x3mm, Pitch 0.65mm, IPC High Density)
footprint TI-DGK8_M (SOP, 8-Leads, Body 3x3mm, Pitch 0.65mm, IPC Low Density)
pins: 1 EN (in), 2 VIN (power), 3 VOUT (power), 4 NR, 5 GND (power), 6 GND (power), 7 GND (power), 8 GND (power)

## REG113EA-5/2K5
designator U?
Single Output Fast Transient Response LDO, 400 mA, Fixed 5 V Output, 1.8 to 10 V Input, 8-pin MSOP (DGK), -40 to 85 degC, Green (RoHS & no Sb/Br); Manufacturer: Texas Instruments; PartNumber: REG113EA-5/2K5; Accuracy(%): 1.5; Fixed Output Options(V): 5; Iout(Max)(A): 0.4; SubFamily: Single Channel LDO; Vdo(Typ)(mV): 250; Vin(Max)(V): 10; Vin(Min)(V): 1.8; DatasheetVersion: SBVS031D; PackageVersion: 4073329/E; PackageReference: DGK8; PackageDescription: 8-Pin Thin Small Outline Package 3 x 3 mm Body ,0.65 mm Pitch; Supplier 1: Digi-Key; Supplier Part Number 1: REG113EA-5/2K5TR-ND; Supplier 2: Digi-Key; Supplier Part Number 2: REG113EA-5/2K5CT-ND; Supplier 3: Digi-Key; Supplier Part Number 3: REG113EA-5/2K5DKR-ND; Supplier 4: Newark; Supplier Part Number 4: 75C7583; Supplier 5: Mouser; Supplier Part Number 5: 595-REG113EA-5/2K5; Eco-Plan: Green (RoHS & no Sb/Br); Iq(Typ)(mA): 0.4; Vout Adj(Max)(V): 5; Vout Adj(Min)(V): 5; Mounting Technology: Surface Mount; Code_JEDEC: MO-187; ComponentLink1Description: Manufacturer URL; ComponentLink1URL: http://www.ti.com/; ComponentLink2Description: Datasheet; ComponentLink2URL: http://www.ti.com/general/docs/lit/getliterature.tsp?genericPartNumber=REG113-5&fileType=pdf; ComponentLink3Description: Package Specification; ComponentLink3URL: http://www.ti.com/litv/pdf/mpds028d
footprint TI-DGK8_N (SOP, 8-Leads, Body 3x3mm, Pitch 0.65mm, IPC Medium Density)
footprint TI-DGK8_L (SOP, 8-Leads, Body 3x3mm, Pitch 0.65mm, IPC High Density)
footprint TI-DGK8_M (SOP, 8-Leads, Body 3x3mm, Pitch 0.65mm, IPC Low Density)
pins: 1 EN (in), 2 VIN (power), 3 VOUT (power), 4 NR, 5 GND (power), 6 GND (power), 7 GND (power), 8 GND (power)

## REG113EA-5/2K5G4
designator U?
Single Output Fast Transient Response LDO, 400 mA, Fixed 5 V Output, 1.8 to 10 V Input, 8-pin MSOP (DGK), -40 to 85 degC, Green (RoHS & no Sb/Br); Manufacturer: Texas Instruments; PartNumber: REG113EA-5/2K5G4; Accuracy(%): 1.5; Fixed Output Options(V): 5; Iout(Max)(A): 0.4; SubFamily: Single Channel LDO; Vdo(Typ)(mV): 250; Vin(Max)(V): 10; Vin(Min)(V): 1.8; DatasheetVersion: SBVS031D; PackageVersion: 4073329/E; PackageReference: DGK8; PackageDescription: 8-Pin Thin Small Outline Package 3 x 3 mm Body ,0.65 mm Pitch; Supplier 1: Digi-Key; Supplier Part Number 1: REG113EA-5/2K5G4-ND; Supplier 2: Mouser; Supplier Part Number 2: 595-REG113EA-5/2K5G4; Eco-Plan: Green (RoHS & no Sb/Br); Iq(Typ)(mA): 0.4; Vout Adj(Max)(V): 5; Vout Adj(Min)(V): 5; Mounting Technology: Surface Mount; Code_JEDEC: MO-187; ComponentLink1Description: Manufacturer URL; ComponentLink1URL: http://www.ti.com/; ComponentLink2Description: Datasheet; ComponentLink2URL: http://www.ti.com/general/docs/lit/getliterature.tsp?genericPartNumber=REG113-5&fileType=pdf; ComponentLink3Description: Package Specification; ComponentLink3URL: http://www.ti.com/litv/pdf/mpds028d
footprint TI-DGK8_N (SOP, 8-Leads, Body 3x3mm, Pitch 0.65mm, IPC Medium Density)
footprint TI-DGK8_L (SOP, 8-Leads, Body 3x3mm, Pitch 0.65mm, IPC High Density)
footprint TI-DGK8_M (SOP, 8-Leads, Body 3x3mm, Pitch 0.65mm, IPC Low Density)
pins: 1 EN (in), 2 VIN (power), 3 VOUT (power), 4 NR, 5 GND (power), 6 GND (power), 7 GND (power), 8 GND (power)

## REG113EA-5/250
designator U?
Single Output Fast Transient Response LDO, 400 mA, Fixed 5 V Output, 1.8 to 10 V Input, 8-pin MSOP (DGK), -40 to 85 degC, Green (RoHS & no Sb/Br); Manufacturer: Texas Instruments; PartNumber: REG113EA-5/250; Accuracy(%): 1.5; Fixed Output Options(V): 5; Iout(Max)(A): 0.4; SubFamily: Single Channel LDO; Vdo(Typ)(mV): 250; Vin(Max)(V): 10; Vin(Min)(V): 1.8; DatasheetVersion: SBVS031D; PackageVersion: 4073329/E; PackageReference: DGK8; PackageDescription: 8-Pin Thin Small Outline Package 3 x 3 mm Body ,0.65 mm Pitch; Supplier 1: Digi-Key; Supplier Part Number 1: 296-29170-2-ND; Supplier 2: Digi-Key; Supplier Part Number 2: 296-29170-1-ND; Supplier 3: Digi-Key; Supplier Part Number 3: 296-29170-6-ND; Supplier 4: Newark; Supplier Part Number 4: 75C7584; Supplier 5: Mouser; Supplier Part Number 5: 595-REG113EA-5/250; Eco-Plan: Green (RoHS & no Sb/Br); Iq(Typ)(mA): 0.4; Vout Adj(Max)(V): 5; Vout Adj(Min)(V): 5; Mounting Technology: Surface Mount; Code_JEDEC: MO-187; ComponentLink1Description: Manufacturer URL; ComponentLink1URL: http://www.ti.com/; ComponentLink2Description: Datasheet; ComponentLink2URL: http://www.ti.com/general/docs/lit/getliterature.tsp?genericPartNumber=REG113-5&fileType=pdf; ComponentLink3Description: Package Specification; ComponentLink3URL: http://www.ti.com/litv/pdf/mpds028d
footprint TI-DGK8_N (SOP, 8-Leads, Body 3x3mm, Pitch 0.65mm, IPC Medium Density)
footprint TI-DGK8_L (SOP, 8-Leads, Body 3x3mm, Pitch 0.65mm, IPC High Density)
footprint TI-DGK8_M (SOP, 8-Leads, Body 3x3mm, Pitch 0.65mm, IPC Low Density)
pins: 1 EN (in), 2 VIN (power), 3 VOUT (power), 4 NR, 5 GND (power), 6 GND (power), 7 GND (power), 8 GND (power)

## REG113EA-5/250G4
designator U?
Single Output Fast Transient Response LDO, 400 mA, Fixed 5 V Output, 1.8 to 10 V Input, 8-pin MSOP (DGK), -40 to 85 degC, Green (RoHS & no Sb/Br); Manufacturer: Texas Instruments; PartNumber: REG113EA-5/250G4; Accuracy(%): 1.5; Fixed Output Options(V): 5; Iout(Max)(A): 0.4; SubFamily: Single Channel LDO; Vdo(Typ)(mV): 250; Vin(Max)(V): 10; Vin(Min)(V): 1.8; DatasheetVersion: SBVS031D; PackageVersion: 4073329/E; PackageReference: DGK8; PackageDescription: 8-Pin Thin Small Outline Package 3 x 3 mm Body ,0.65 mm Pitch; Supplier 1: Digi-Key; Supplier Part Number 1: REG113EA-5/250G4-ND; Supplier 2: Newark; Supplier Part Number 2: 66K4130; Supplier 3: Mouser; Supplier Part Number 3: 595-REG113EA-5/250G4; Eco-Plan: Green (RoHS & no Sb/Br); Iq(Typ)(mA): 0.4; Vout Adj(Max)(V): 5; Vout Adj(Min)(V): 5; Mounting Technology: Surface Mount; Code_JEDEC: MO-187; ComponentLink1Description: Manufacturer URL; ComponentLink1URL: http://www.ti.com/; ComponentLink2Description: Datasheet; ComponentLink2URL: http://www.ti.com/general/docs/lit/getliterature.tsp?genericPartNumber=REG113-5&fileType=pdf; ComponentLink3Description: Package Specification; ComponentLink3URL: http://www.ti.com/litv/pdf/mpds028d
footprint TI-DGK8_N (SOP, 8-Leads, Body 3x3mm, Pitch 0.65mm, IPC Medium Density)
footprint TI-DGK8_L (SOP, 8-Leads, Body 3x3mm, Pitch 0.65mm, IPC High Density)
footprint TI-DGK8_M (SOP, 8-Leads, Body 3x3mm, Pitch 0.65mm, IPC Low Density)
pins: 1 EN (in), 2 VIN (power), 3 VOUT (power), 4 NR, 5 GND (power), 6 GND (power), 7 GND (power), 8 GND (power)

## REG113NA2.85/250G4
designator U?
Single Output Fast Transient Response LDO, 400 mA, Fixed 2.85 V Output, 1.8 to 10 V Input, 5-pin SOT-23 (DBV), -40 to 85 degC, Green (RoHS & no Sb/Br); Manufacturer: Texas Instruments; PartNumber: REG113NA2.85/250G4; Accuracy(%): 1.5; Fixed Output Options(V): 2.85; Iout(Max)(A): 0.4; SubFamily: Single Channel LDO; Vdo(Typ)(mV): 250; Vin(Max)(V): 10; Vin(Min)(V): 1.8; Vout Adj(Max)(V): 2.8; DatasheetVersion: SBVS031D; PackageVersion: 4073253-4/K; PackageReference: DBV5; PackageDescription: 5-Pin Plastic Small Outline, Body 1.60 × 2.90 mm, Pitch 0.95 mm; Supplier 1: Digi-Key; Supplier Part Number 1: REG113NA2.85/250G4-ND; Supplier 2: Mouser; Supplier Part Number 2: 595-REG113NA2.85/250; Eco-Plan: Green (RoHS & no Sb/Br); Iq(Typ)(mA): 0.4; Vout Adj(Min)(V): 2.8; Mounting Technology: Surface Mount; Code_JEDEC: MO-178; ComponentLink1Description: Manufacturer URL; ComponentLink1URL: http://www.ti.com/; ComponentLink2Description: Datasheet; ComponentLink2URL: http://www.ti.com/general/docs/lit/getliterature.tsp?genericPartNumber=REG113-285&fileType=pdf; ComponentLink3Description: Package Specification; ComponentLink3URL: http://www.ti.com/litv/pdf/mpds018i
footprint TI-DBV5_N (SOT23, 5-Leads, Body 2.9x1.6mm, Pitch 0.95mm, IPC Medium Density)
footprint TI-DBV5_L (SOT23, 5-Leads, Body 2.9x1.6mm, Pitch 0.95mm, IPC High Density)
footprint TI-DBV5_M (SOT23, 5-Leads, Body 2.9x1.6mm, Pitch 0.95mm, IPC Low Density)
pins: 1 VIN (power), 2 GND (power), 3 EN (in), 4 NR, 5 VOUT (power)

## REG113NA-2.5/3K
designator U?
Single Output Fast Transient Response LDO, 400 mA, Fixed 2.5 V Output, 1.8 to 10 V Input, 5-pin SOT-23 (DBV), -40 to 85 degC, Green (RoHS & no Sb/Br); Manufacturer: Texas Instruments; PartNumber: REG113NA-2.5/3K; Accuracy(%): 1.5; Fixed Output Options(V): 2.5; Iout(Max)(A): 0.4; SubFamily: Single Channel LDO; Vdo(Typ)(mV): 250; Vin(Max)(V): 10; Vin(Min)(V): 1.8; DatasheetVersion: SBVS031D; PackageVersion: 4073253-4/K; PackageReference: DBV5; PackageDescription: 5-Pin Plastic Small Outline, Body 1.60 × 2.90 mm, Pitch 0.95 mm; Supplier 1: Digi-Key; Supplier Part Number 1: REG113NA-2.5/3KTR-ND; Supplier 2: Digi-Key; Supplier Part Number 2: REG113NA-2.5/3KCT-ND; Supplier 3: Digi-Key; Supplier Part Number 3: REG113NA-2.5/3KDKR-ND; Supplier 4: Mouser; Supplier Part Number 4: 595-REG113NA-2.5/3K; Eco-Plan: Green (RoHS & no Sb/Br); Iq(Typ)(mA): 0.4; Vout Adj(Max)(V): 2.5; Vout Adj(Min)(V): 2.5; Mounting Technology: Surface Mount; Code_JEDEC: MO-178; ComponentLink1Description: Manufacturer URL; ComponentLink1URL: http://www.ti.com/; ComponentLink2Description: Datasheet; ComponentLink2URL: http://www.ti.com/general/docs/lit/getliterature.tsp?genericPartNumber=REG113-25&fileType=pdf; ComponentLink3Description: Package Specification; ComponentLink3URL: http://www.ti.com/litv/pdf/mpds018i
footprint TI-DBV5_N (SOT23, 5-Leads, Body 2.9x1.6mm, Pitch 0.95mm, IPC Medium Density)
footprint TI-DBV5_L (SOT23, 5-Leads, Body 2.9x1.6mm, Pitch 0.95mm, IPC High Density)
footprint TI-DBV5_M (SOT23, 5-Leads, Body 2.9x1.6mm, Pitch 0.95mm, IPC Low Density)
pins: 1 VIN (power), 2 GND (power), 3 EN (in), 4 NR, 5 VOUT (power)

## REG113NA-2.5/3KG4
designator U?
Single Output Fast Transient Response LDO, 400 mA, Fixed 2.5 V Output, 1.8 to 10 V Input, 5-pin SOT-23 (DBV), -40 to 85 degC, Green (RoHS & no Sb/Br); Manufacturer: Texas Instruments; PartNumber: REG113NA-2.5/3KG4; Accuracy(%): 1.5; Fixed Output Options(V): 2.5; Iout(Max)(A): 0.4; SubFamily: Single Channel LDO; Vdo(Typ)(mV): 250; Vin(Max)(V): 10; Vin(Min)(V): 1.8; DatasheetVersion: SBVS031D; PackageVersion: 4073253-4/K; PackageReference: DBV5; PackageDescription: 5-Pin Plastic Small Outline, Body 1.60 × 2.90 mm, Pitch 0.95 mm; Supplier 1: Digi-Key; Supplier Part Number 1: REG113NA-2.5/3KG4-ND; Supplier 2: Mouser; Supplier Part Number 2: 595-REG113NA25/3KG4; Eco-Plan: Green (RoHS & no Sb/Br); Iq(Typ)(mA): 0.4; Vout Adj(Max)(V): 2.5; Vout Adj(Min)(V): 2.5; Mounting Technology: Surface Mount; Code_JEDEC: MO-178; ComponentLink1Description: Manufacturer URL; ComponentLink1URL: http://www.ti.com/; ComponentLink2Description: Datasheet; ComponentLink2URL: http://www.ti.com/general/docs/lit/getliterature.tsp?genericPartNumber=REG113-25&fileType=pdf; ComponentLink3Description: Package Specification; ComponentLink3URL: http://www.ti.com/litv/pdf/mpds018i
footprint TI-DBV5_N (SOT23, 5-Leads, Body 2.9x1.6mm, Pitch 0.95mm, IPC Medium Density)
footprint TI-DBV5_L (SOT23, 5-Leads, Body 2.9x1.6mm, Pitch 0.95mm, IPC High Density)
footprint TI-DBV5_M (SOT23, 5-Leads, Body 2.9x1.6mm, Pitch 0.95mm, IPC Low Density)
pins: 1 VIN (power), 2 GND (power), 3 EN (in), 4 NR, 5 VOUT (power)

## REG113NA-2.5/250
designator U?
Single Output Fast Transient Response LDO, 400 mA, Fixed 2.5 V Output, 1.8 to 10 V Input, 5-pin SOT-23 (DBV), -40 to 85 degC, Green (RoHS & no Sb/Br); Manufacturer: Texas Instruments; PartNumber: REG113NA-2.5/250; Accuracy(%): 1.5; Fixed Output Options(V): 2.5; Iout(Max)(A): 0.4; SubFamily: Single Channel LDO; Vdo(Typ)(mV): 250; Vin(Max)(V): 10; Vin(Min)(V): 1.8; DatasheetVersion: SBVS031D; PackageVersion: 4073253-4/K; PackageReference: DBV5; PackageDescription: 5-Pin Plastic Small Outline, Body 1.60 × 2.90 mm, Pitch 0.95 mm; Supplier 1: Digi-Key; Supplier Part Number 1: REG113NA-2.5/250-ND; Supplier 2: Farnell; Supplier Part Number 2: 1909737; Supplier 3: Farnell; Supplier Part Number 3: 1909737RL; Supplier 4: Newark; Supplier Part Number 4: 58T2193; Supplier 5: Newark; Supplier Part Number 5: 75C7585; Supplier 6: Mouser; Supplier Part Number 6: 595-REG113NA-2.5/250; Eco-Plan: Green (RoHS & no Sb/Br); Iq(Typ)(mA): 0.4; Vout Adj(Max)(V): 2.5; Vout Adj(Min)(V): 2.5; Mounting Technology: Surface Mount; Code_JEDEC: MO-178; ComponentLink1Description: Manufacturer URL; ComponentLink1URL: http://www.ti.com/; ComponentLink2Description: Datasheet; ComponentLink2URL: http://www.ti.com/general/docs/lit/getliterature.tsp?genericPartNumber=REG113-25&fileType=pdf; ComponentLink3Description: Package Specification; ComponentLink3URL: http://www.ti.com/litv/pdf/mpds018i
footprint TI-DBV5_N (SOT23, 5-Leads, Body 2.9x1.6mm, Pitch 0.95mm, IPC Medium Density)
footprint TI-DBV5_L (SOT23, 5-Leads, Body 2.9x1.6mm, Pitch 0.95mm, IPC High Density)
footprint TI-DBV5_M (SOT23, 5-Leads, Body 2.9x1.6mm, Pitch 0.95mm, IPC Low Density)
pins: 1 VIN (power), 2 GND (power), 3 EN (in), 4 NR, 5 VOUT (power)

## REG113NA-2.5/250G4
designator U?
Single Output Fast Transient Response LDO, 400 mA, Fixed 2.5 V Output, 1.8 to 10 V Input, 5-pin SOT-23 (DBV), -40 to 85 degC, Green (RoHS & no Sb/Br); Manufacturer: Texas Instruments; PartNumber: REG113NA-2.5/250G4; Accuracy(%): 1.5; Fixed Output Options(V): 2.5; Iout(Max)(A): 0.4; SubFamily: Single Channel LDO; Vdo(Typ)(mV): 250; Vin(Max)(V): 10; Vin(Min)(V): 1.8; DatasheetVersion: SBVS031D; PackageVersion: 4073253-4/K; PackageReference: DBV5; PackageDescription: 5-Pin Plastic Small Outline, Body 1.60 × 2.90 mm, Pitch 0.95 mm; Supplier 1: Digi-Key; Supplier Part Number 1: REG113NA-2.5/250G4-ND; Supplier 2: Mouser; Supplier Part Number 2: 595-REG113NA-25250G4; Eco-Plan: Green (RoHS & no Sb/Br); Iq(Typ)(mA): 0.4; Vout Adj(Max)(V): 2.5; Vout Adj(Min)(V): 2.5; Mounting Technology: Surface Mount; Code_JEDEC: MO-178; ComponentLink1Description: Manufacturer URL; ComponentLink1URL: http://www.ti.com/; ComponentLink2Description: Datasheet; ComponentLink2URL: http://www.ti.com/general/docs/lit/getliterature.tsp?genericPartNumber=REG113-25&fileType=pdf; ComponentLink3Description: Package Specification; ComponentLink3URL: http://www.ti.com/litv/pdf/mpds018i
footprint TI-DBV5_N (SOT23, 5-Leads, Body 2.9x1.6mm, Pitch 0.95mm, IPC Medium Density)
footprint TI-DBV5_L (SOT23, 5-Leads, Body 2.9x1.6mm, Pitch 0.95mm, IPC High Density)
footprint TI-DBV5_M (SOT23, 5-Leads, Body 2.9x1.6mm, Pitch 0.95mm, IPC Low Density)
pins: 1 VIN (power), 2 GND (power), 3 EN (in), 4 NR, 5 VOUT (power)

## REG113NA-2.85/3K
designator U?
Single Output Fast Transient Response LDO, 400 mA, Fixed 2.85 V Output, 1.8 to 10 V Input, 5-pin SOT-23 (DBV), -40 to 85 degC, Green (RoHS & no Sb/Br); Manufacturer: Texas Instruments; PartNumber: REG113NA-2.85/3K; Accuracy(%): 1.5; Fixed Output Options(V): 2.85; Iout(Max)(A): 0.4; SubFamily: Single Channel LDO; Vdo(Typ)(mV): 250; Vin(Max)(V): 10; Vin(Min)(V): 1.8; Vout Adj(Max)(V): 2.8; DatasheetVersion: SBVS031D; PackageVersion: 4073253-4/K; PackageReference: DBV5; PackageDescription: 5-Pin Plastic Small Outline, Body 1.60 × 2.90 mm, Pitch 0.95 mm; Supplier 1: Digi-Key; Supplier Part Number 1: REG113NA2.853KTR-ND; Supplier 2: Digi-Key; Supplier Part Number 2: REG113NA2.853KCT-ND; Supplier 3: Digi-Key; Supplier Part Number 3: REG113NA2.853KDKR-ND; Supplier 4: Mouser; Supplier Part Number 4: 595-REG113NA-2.85/3K; Eco-Plan: Green (RoHS & no Sb/Br); Iq(Typ)(mA): 0.4; Vout Adj(Min)(V): 2.8; Mounting Technology: Surface Mount; Code_JEDEC: MO-178; ComponentLink1Description: Manufacturer URL; ComponentLink1URL: http://www.ti.com/; ComponentLink2Description: Datasheet; ComponentLink2URL: http://www.ti.com/general/docs/lit/getliterature.tsp?genericPartNumber=REG113-285&fileType=pdf; ComponentLink3Description: Package Specification; ComponentLink3URL: http://www.ti.com/litv/pdf/mpds018i
footprint TI-DBV5_N (SOT23, 5-Leads, Body 2.9x1.6mm, Pitch 0.95mm, IPC Medium Density)
footprint TI-DBV5_L (SOT23, 5-Leads, Body 2.9x1.6mm, Pitch 0.95mm, IPC High Density)
footprint TI-DBV5_M (SOT23, 5-Leads, Body 2.9x1.6mm, Pitch 0.95mm, IPC Low Density)
pins: 1 VIN (power), 2 GND (power), 3 EN (in), 4 NR, 5 VOUT (power)

## REG113NA-2.85/3KG4
designator U?
Single Output Fast Transient Response LDO, 400 mA, Fixed 2.85 V Output, 1.8 to 10 V Input, 5-pin SOT-23 (DBV), -40 to 85 degC, Green (RoHS & no Sb/Br); Manufacturer: Texas Instruments; PartNumber: REG113NA-2.85/3KG4; Accuracy(%): 1.5; Fixed Output Options(V): 2.85; Iout(Max)(A): 0.4; SubFamily: Single Channel LDO; Vdo(Typ)(mV): 250; Vin(Max)(V): 10; Vin(Min)(V): 1.8; Vout Adj(Max)(V): 2.8; DatasheetVersion: SBVS031D; PackageVersion: 4073253-4/K; PackageReference: DBV5; PackageDescription: 5-Pin Plastic Small Outline, Body 1.60 × 2.90 mm, Pitch 0.95 mm; Supplier 1: Digi-Key; Supplier Part Number 1: REG113NA-2.85/3KG4-ND; Supplier 2: Mouser; Supplier Part Number 2: 595-REG113NA-2853KG4; Eco-Plan: Green (RoHS & no Sb/Br); Iq(Typ)(mA): 0.4; Vout Adj(Min)(V): 2.8; Mounting Technology: Surface Mount; Code_JEDEC: MO-178; ComponentLink1Description: Manufacturer URL; ComponentLink1URL: http://www.ti.com/; ComponentLink2Description: Datasheet; ComponentLink2URL: http://www.ti.com/general/docs/lit/getliterature.tsp?genericPartNumber=REG113-285&fileType=pdf; ComponentLink3Description: Package Specification; ComponentLink3URL: http://www.ti.com/litv/pdf/mpds018i
footprint TI-DBV5_N (SOT23, 5-Leads, Body 2.9x1.6mm, Pitch 0.95mm, IPC Medium Density)
footprint TI-DBV5_L (SOT23, 5-Leads, Body 2.9x1.6mm, Pitch 0.95mm, IPC High Density)
footprint TI-DBV5_M (SOT23, 5-Leads, Body 2.9x1.6mm, Pitch 0.95mm, IPC Low Density)
pins: 1 VIN (power), 2 GND (power), 3 EN (in), 4 NR, 5 VOUT (power)

## REG113NA-2.85/250
designator U?
Single Output Fast Transient Response LDO, 400 mA, Fixed 2.85 V Output, 1.8 to 10 V Input, 5-pin SOT-23 (DBV), -40 to 85 degC, Green (RoHS & no Sb/Br); Manufacturer: Texas Instruments; PartNumber: REG113NA-2.85/250; Accuracy(%): 1.5; Fixed Output Options(V): 2.85; Iout(Max)(A): 0.4; SubFamily: Single Channel LDO; Vdo(Typ)(mV): 250; Vin(Max)(V): 10; Vin(Min)(V): 1.8; Vout Adj(Max)(V): 2.8; DatasheetVersion: SBVS031D; PackageVersion: 4073253-4/K; PackageReference: DBV5; PackageDescription: 5-Pin Plastic Small Outline, Body 1.60 × 2.90 mm, Pitch 0.95 mm; Supplier 1: Digi-Key; Supplier Part Number 1: REG113NA-2.85/250-ND; Supplier 2: Mouser; Supplier Part Number 2: 595-REG113NA285/250; Eco-Plan: Green (RoHS & no Sb/Br); Iq(Typ)(mA): 0.4; Vout Adj(Min)(V): 2.8; Mounting Technology: Surface Mount; Code_JEDEC: MO-178; ComponentLink1Description: Manufacturer URL; ComponentLink1URL: http://www.ti.com/; ComponentLink2Description: Datasheet; ComponentLink2URL: http://www.ti.com/general/docs/lit/getliterature.tsp?genericPartNumber=REG113-285&fileType=pdf; ComponentLink3Description: Package Specification; ComponentLink3URL: http://www.ti.com/litv/pdf/mpds018i
footprint TI-DBV5_N (SOT23, 5-Leads, Body 2.9x1.6mm, Pitch 0.95mm, IPC Medium Density)
footprint TI-DBV5_L (SOT23, 5-Leads, Body 2.9x1.6mm, Pitch 0.95mm, IPC High Density)
footprint TI-DBV5_M (SOT23, 5-Leads, Body 2.9x1.6mm, Pitch 0.95mm, IPC Low Density)
pins: 1 VIN (power), 2 GND (power), 3 EN (in), 4 NR, 5 VOUT (power)